# EAGLE library part NC7SZ11 (library fairchild-semi)
UHS 3-Input AND Gate
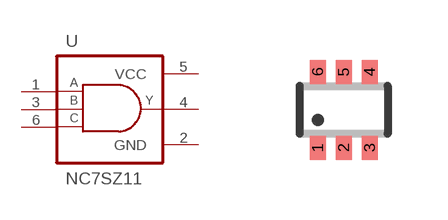
[diagram p12: symbol with the pads of SC70-6; footprint SC70-6]

Designator prefix U

## NC7SZ11P6X  [SC70-6]
1  A  in
2  GND  pwr
3  B  in
4  Y  out
5  VCC  pwr
6  C  in

## Footprint SC70-6 (pad centres in mm)
SC-70 Package - Fairchild
smd 0.4 x 0.6: 1 -0.65,-0.95; 2 0,-0.95; 3 0.65,-0.95; 4 0.65,0.95; 5 0,0.95; 6 -0.65,0.95